# Altium footprint library 三极管.PcbLib: 12 footprints
Each footprint in its own frame and in the unit in brackets; x right, y up, seen from the top. Pads: shape width x height; smd on the part's side, far side on the other; paste and mask are expansions set on the pad; w line width, h text height; cw(c..) or ccw(c..) is an arc to the next point about the centre after c.
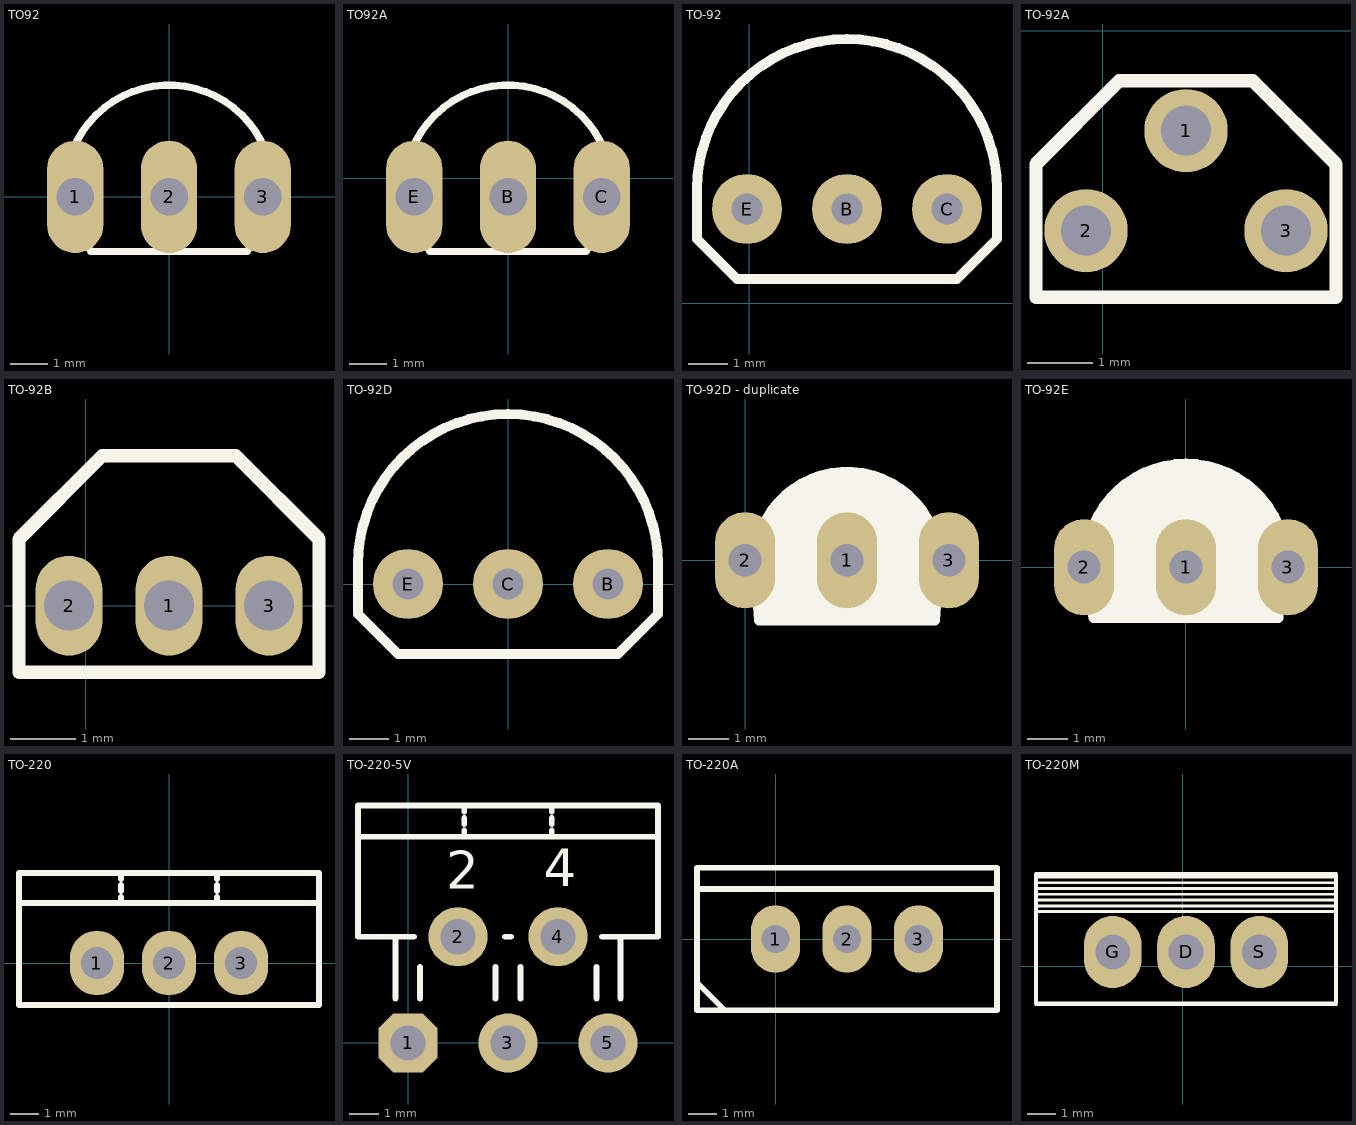
[diagram p0: the footprints below, top view; thin cyan lines are the x and y axes]

## TO92 [mil]
pads (3):
  oval 60x120 hole 40: 1(-100,0) 2(0,0) 3(100,0)
Top Overlay:
  lines w7.87: -102.76,49.85 cw(c0,8.33) 102.76,49.85 ; -89.08,-49.71 -83.33,-58.33 83.33,-58.33 89.08,-49.71

## TO92A [mil]
pads (3):
  oval 60x120 hole 40: B(0,-20) C(100,-20) E(-100,-20)
Top Overlay:
  lines w7.87: -102.76,29.85 cw(c0,-11.67) 102.76,29.85 ; -89.08,-69.71 -83.33,-78.33 83.33,-78.33 89.08,-69.71

## TO-92 [mil]
pads (3):
  round 70 hole 31.5: B(98,94) C(198,94) E(-2,94)
Top Overlay:
  lines w10: -52,64 -52,114 cw(c98,114) 248,114 248,64 208,24 -12,24 -52,64

## TO-92A [mil]
pads (3):
  round 50 hole 30: 1(50,-60) 2(-10,-120) 3(110,-120)
Top Overlay:
  lines w8: -40,-160 140,-160 140,-80 90,-30 10,-30 -40,-80 -40,-160

## TO-92B [mil]
pads (3):
  oval 40x60 hole 30: 1(50,0) 2(-10,0) 3(110,0)
Top Overlay:
  lines w8: -40,-40 -40,40 10,90 90,90 140,40 140,-40 -40,-40

## TO-92D [mil]
pads (3):
  round 70 hole 31.5: B(100,0) C(0,0) E(-100,0)
Top Overlay:
  lines w10: -150,-30 -150,20 cw(c0,20) 150,20 150,-30 110,-70 -110,-70 -150,-30

## TO-92D - duplicate [mm]
pads (3):
  oval 1.5x2.4 hole 0.82: 1(2.54,0) 2(0,0) 3(5.08,0)
Top Overlay:
  lines w0.25: 0.29,-0.5 0.29,0 ; 0.34,0 cw(c2.54,-0.116) 4.74,0 ; 0.39,-1.5 0.39,0 ; 0.39,-1.45 4.59,-1.45 ; 0.39,-1.35 4.59,-1.35 ; 0.39,-1.25 4.59,-1.25 ; 0.39,-1.15 4.59,-1.15 ; 0.39,-1.05 4.59,-1.05 ; 0.39,-0.95 4.59,-0.95 ; 0.39,-0.85 4.59,-0.85 ; 0.39,-0.75 4.59,-0.75 ; 0.39,-0.65 4.59,-0.65 ; 0.44,-0.55 4.64,-0.55 ; 0.44,-0.45 4.64,-0.45 ; 0.44,-0.35 4.64,-0.35 ; 0.44,-0.25 4.64,-0.25 ; 0.44,-0.15 4.64,-0.15 ; 0.44,-0.05 4.64,-0.05 ; 0.44,0 cw(c2.54,-0.11) 4.64,0 ; 0.54,0 cw(c2.54,-0.105) 4.54,0 ; 0.64,0 cw(c2.54,-0.1) 4.44,0 ; 0.74,0 cw(c2.54,-0.094) 4.34,0 ; 0.84,0 cw(c2.54,-0.089) 4.24,0 ; 0.94,0 cw(c2.54,-0.084) 4.14,0 ; 1.04,0 cw(c2.54,-0.079) 4.04,0 ; 1.14,0 cw(c2.54,-0.073) 3.94,0 ; 1.24,0 cw(c2.54,-0.068) 3.84,0 ; 1.34,0 cw(c2.54,-0.063) 3.74,0 ; 1.44,0 cw(c2.54,-0.058) 3.64,0 ; 1.54,0 cw(c2.54,-0.052) 3.54,0 ; 1.64,0 cw(c2.54,-0.047) 3.44,0 ; 1.74,0 cw(c2.54,-0.042) 3.34,0 ; 1.84,0 cw(c2.54,-0.037) 3.24,0 ; 1.94,0 cw(c2.54,-0.031) 3.14,0 ; 2.04,0 cw(c2.54,-0.026) 3.04,0 ; 2.14,0 cw(c2.54,-0.021) 2.94,0 ; 2.24,0 cw(c2.54,-0.016) 2.84,0 ; 4.69,-1.5 4.69,0 ; 4.79,-0.5 4.79,0 ; 0.24,0 cw(c2.54,-0.093) 4.84,0 4.74,-1.5 0.34,-1.5 0.24,0

## TO-92E [mm]
pads (3):
  oval 1.5x2.4 hole 0.82: 1(0.006,0.008) 2(-2.534,0.008) 3(2.546,0.008)
Top Overlay:
  lines w0.25: -2.394,-0.492 -2.394,0.008 cw(c0.006,0.106) 2.406,0.008 2.406,-0.492 ; -2.294,-1.192 -2.294,0.008 cw(c0.006,0.1) 2.306,0.008 2.306,-1.192 ; -2.194,-1.192 2.206,-1.192 ; -2.194,-1.092 2.206,-1.092 ; -2.194,-0.992 2.206,-0.992 ; -2.194,-0.892 2.206,-0.892 ; -2.194,-0.792 2.206,-0.792 ; -2.194,-0.692 2.206,-0.692 ; -2.194,-0.592 2.206,-0.592 ; -2.194,-0.492 2.206,-0.492 ; -2.194,-0.392 2.206,-0.392 ; -2.194,-0.292 2.206,-0.292 ; -2.194,-0.192 2.206,-0.192 ; -2.194,-0.092 2.206,-0.092 ; -2.194,0.008 cw(c0.006,0.096) 2.206,0.008 ; -2.094,0.008 cw(c0.006,0.092) 2.106,0.008 ; -1.994,0.008 cw(c0.006,0.088) 2.006,0.008 ; -1.894,0.008 cw(c0.006,0.084) 1.906,0.008 ; -1.794,0.008 cw(c0.006,0.08) 1.806,0.008 ; -1.694,0.008 cw(c0.006,0.076) 1.706,0.008 ; -1.594,0.008 cw(c0.006,0.072) 1.606,0.008 ; -1.494,0.008 cw(c0.006,0.068) 1.506,0.008 ; -1.394,0.008 cw(c0.006,0.064) 1.406,0.008 ; -1.294,0.008 cw(c0.006,0.06) 1.306,0.008 ; -1.194,0.008 cw(c0.006,0.056) 1.206,0.008 ; -1.094,0.008 cw(c0.006,0.052) 1.106,0.008 ; -0.994,0.008 cw(c0.006,0.048) 1.006,0.008 ; -0.894,0.008 cw(c0.006,0.044) 0.906,0.008 ; -0.794,0.008 cw(c0.006,0.04) 0.806,0.008 ; -0.694,0.008 cw(c0.006,0.036) 0.706,0.008 ; -0.594,0.008 cw(c0.006,0.032) 0.606,0.008 ; -0.494,0.008 cw(c0.006,0.028) 0.506,0.008 ; -0.394,0.008 cw(c0.006,0.024) 0.406,0.008 ; -0.294,0.008 cw(c0.006,0.02) 0.306,0.008 ; -0.194,0.008 cw(c0.006,0.016) 0.206,0.008 ; -2.494,0.008 cw(c0.006,0.086) 2.506,0.008 2.306,-1.262 -2.296,-1.262 -2.494,0.008

## TO-220 [mil]
pads (3):
  oval 75x90 hole 45: 1(-100,0) 2(0,0) 3(100,0)
Top Overlay:
  lines w7.87: -66.67,83.33 -66.67,91.67 ; -66.67,100 -66.67,108.33 ; -66.67,116.67 -66.67,125 ; 66.67,83.33 66.67,91.67 ; 66.67,100 66.67,108.33 ; 66.67,116.67 66.67,125 ; -208.33,83.33 -208.33,125 208.33,125 208.33,83.33 ; -208.33,83.33 -208.33,-58.33 208.33,-58.33 208.33,83.33 ; -208.33,83.33 208.33,83.33

## TO-220-5V [mm]
pads (5):
  oct 2x2 hole 1.2: 1(0,0)
  round 2 hole 1.2: 2(1.693,3.598) 3(3.387,0) 4(5.08,3.598) 5(6.773,0)
Top Overlay:
  lines w0.2: -1.693,6.985 8.467,6.985 ; -0.423,1.5 -0.423,3.598 ; 0.2,3.598 -1.693,3.598 -1.693,8.043 8.467,8.043 8.467,3.598 6.573,3.598 ; 0.4,1.5 0.4,2.578 ; 1.905,6.985 1.905,7.197 ; 1.905,7.408 1.905,7.62 ; 1.905,7.832 1.905,8.043 ; 2.963,1.5 2.963,2.578 ; 3.287,3.598 3.487,3.598 ; 3.81,1.5 3.81,2.578 ; 4.868,6.985 4.868,7.197 ; 4.868,7.408 4.868,7.62 ; 4.868,7.832 4.868,8.043 ; 6.381,1.5 6.381,2.578 ; 7.197,1.5 7.197,3.598
  text "2" at 1.301,5.216 h1.27
  text "4" at 4.597,5.301 h1.27

## TO-220A [mm]
pads (3):
  oval 1.75x2.4 hole 1: 1(0,0) 2(2.54,0) 3(5.08,0)
Top Overlay:
  lines w0.2: -2.794,-1.549 -1.803,-2.54 ; -2.794,1.778 7.874,1.778 ; -2.794,-2.54 7.874,-2.54 7.874,2.54 -2.794,2.54 -2.794,-2.54

## TO-220M [mm]
pads (3):
  oval 2x2.5 hole 1.2: D(0.118,0.501) G(-2.422,0.501) S(2.658,0.501)
Top Overlay:
  lines w0.1: -5.082,2.101 5.318,2.101 ; -5.082,2.301 5.318,2.301 ; -5.082,2.501 5.318,2.501 ; -5.082,2.701 5.318,2.701 ; -5.082,2.901 5.318,2.901 ; -5.082,3.101 5.318,3.101 ; -5.082,1.901 -5.082,3.201 5.318,3.201 5.318,1.901 -5.082,1.901
  lines w0.15: -5.082,-1.299 5.318,-1.299 5.318,3.201 -5.082,3.201 -5.082,-1.299